# Altium footprint library OJS-SS-112HMF.PcbLib: 1 footprints
Each footprint in its own frame and in the unit in brackets; x right, y up, seen from the top. Pads: shape width x height; smd on the part's side, far side on the other; paste and mask are expansions set on the pad; w line width, h text height; cw(c..) or ccw(c..) is an arc to the next point about the centre after c.
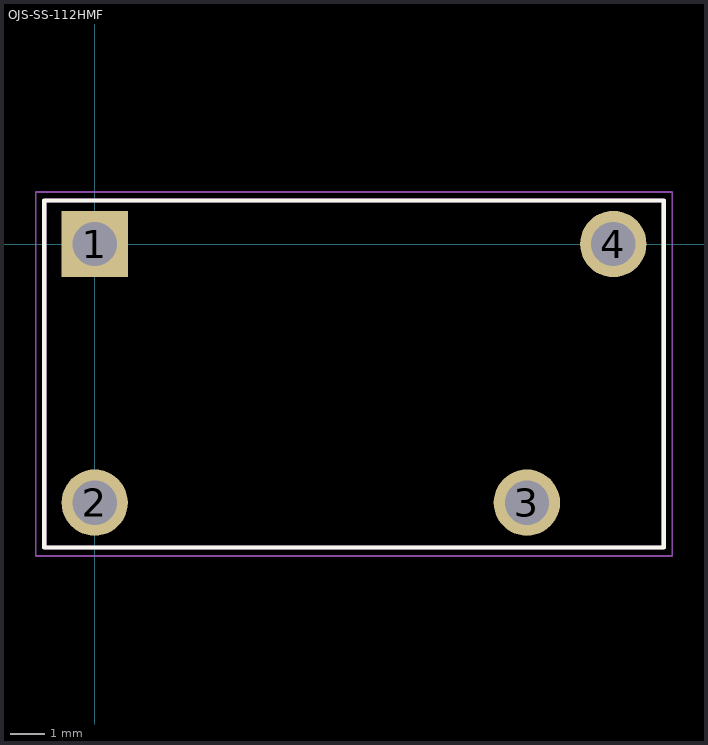
[diagram p0: the footprint, top view; thin cyan lines are the x and y axes]

## OJS-SS-112HMF [mm]
pads (4):
  rect 1.95x1.95 hole 1.3: 1(0,0)
  round 1.95 hole 1.3: 2(0,-7.6) 3(12.7,-7.6) 4(15.24,0)
Top Overlay:
  lines w0.127: -1.48,-8.92 -1.48,1.28 16.72,1.28 16.72,-8.92 -1.48,-8.92
Mechanical 13:
  lines w0.127: -1.48,-8.92 -1.48,1.28 16.72,1.28 16.72,-8.92 -1.48,-8.92
Mechanical 15:
  lines w0.05: -1.73,-9.17 16.97,-9.17 16.97,1.53 -1.73,1.53 -1.73,-9.17
3D body "c-2071556-4-a1-3d.stp": height 14.55, standoff -3.8, extent -1.226,-8.911 16.974,1.291